# EAGLE library part VCNL36825 (library Bits_library_eagle 9x)
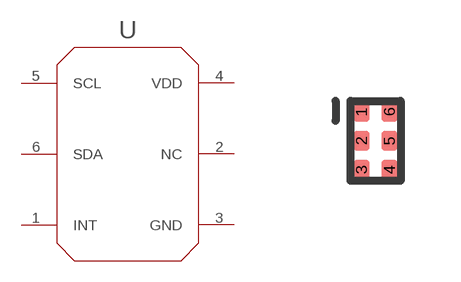
[diagram p85: symbol with the pads of VCNL; footprint VCNL]

Designator prefix -

## VCNL36825  [VCNL]
1  INT
2  NC  nc
3  GND  pwr
4  VDD  pwr
5  SCL
6  SDA

## Footprint VCNL (pad centres in mm)
smd 0.4 x 0.5: 1 -0.35,0.725; 2 -0.35,0; 3 -0.35,-0.725; 4 0.35,-0.725; 5 0.35,0; 6 0.35,0.725